# Altium footprint library Connector_PinHeader_2.00mm.PcbLib: 278 footprints (part 4 of 18)
Each footprint in its own frame and in the unit in brackets; x right, y up, seen from the top. Pads: shape width x height; smd on the part's side, far side on the other; paste and mask are expansions set on the pad; w line width, h text height; cw(c..) or ccw(c..) is an arc to the next point about the centre after c.
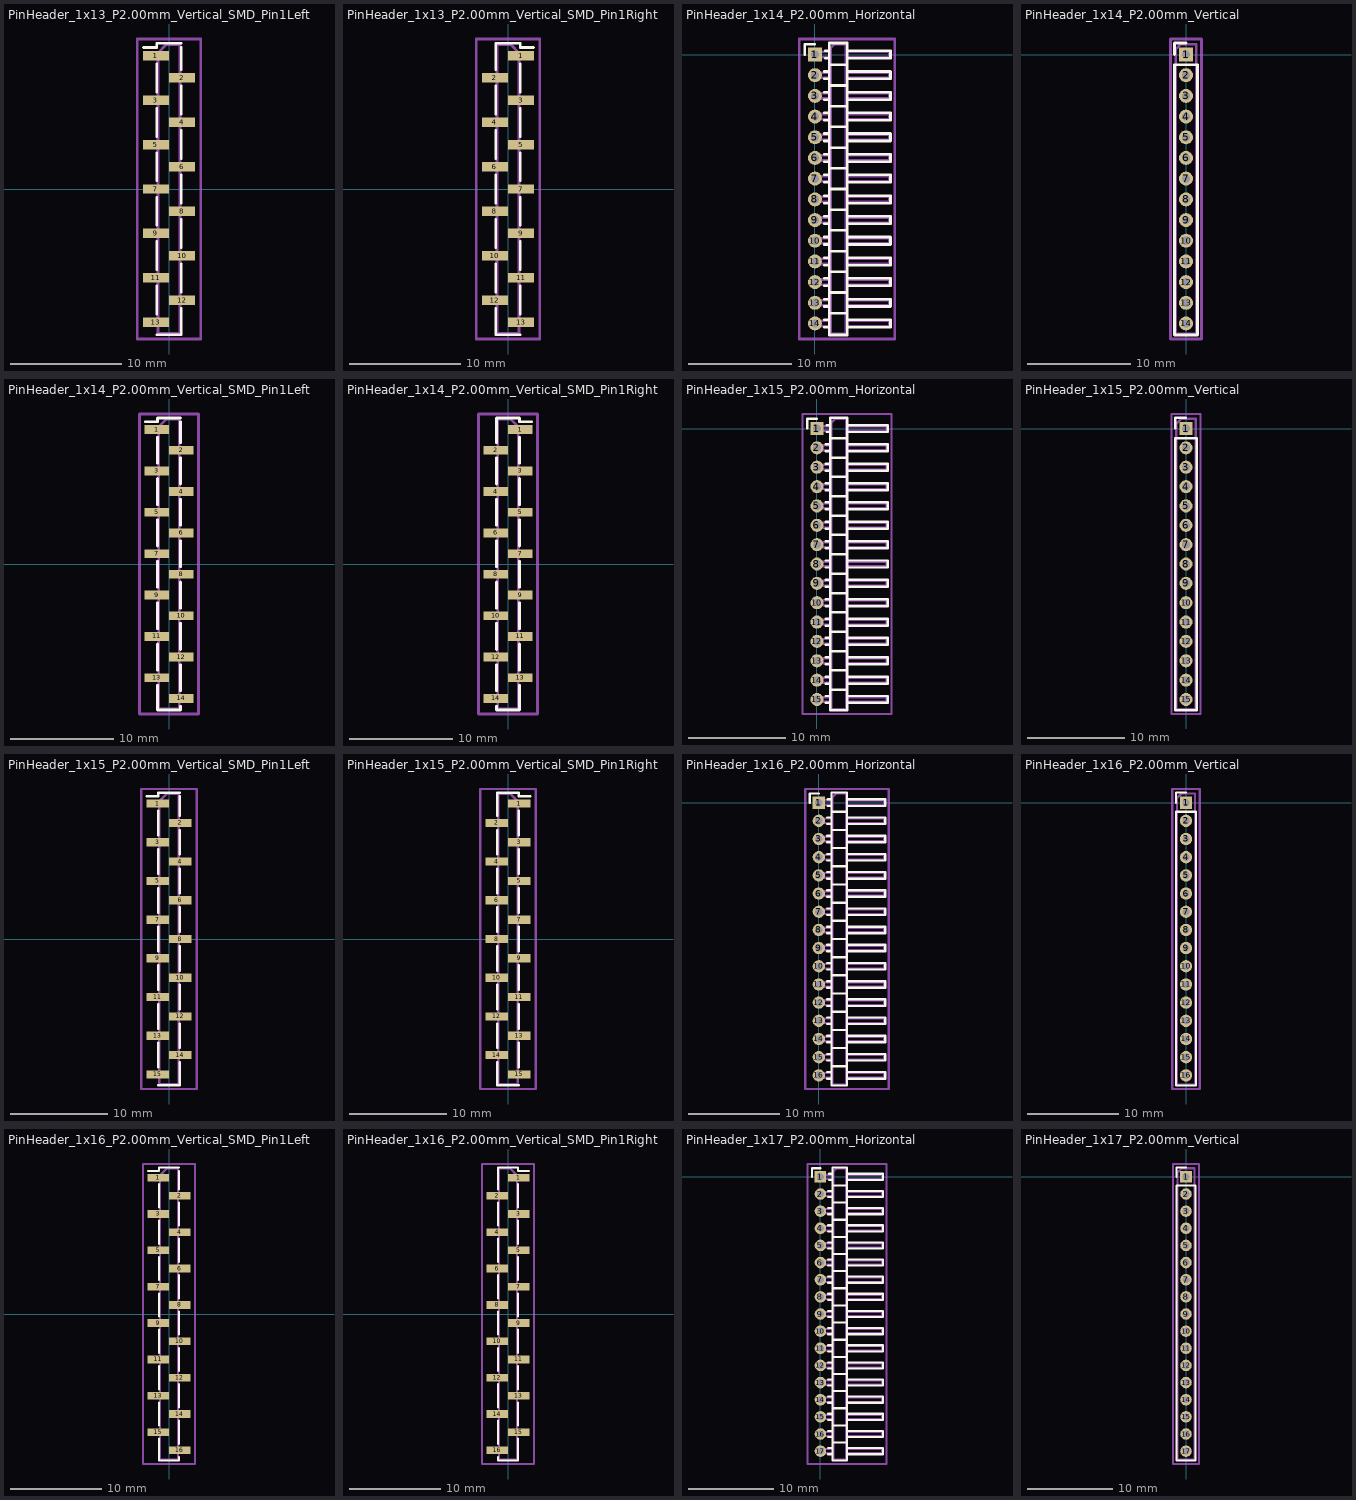
[diagram p3: the footprints below, top view; thin cyan lines are the x and y axes]

## PinHeader_1x13_P2.00mm_Vertical_SMD_Pin1Left [mm]
pads (13):
  rect 2.35x0.85 smd: 1(-1.175,12) 2(1.175,10) 3(-1.175,8) 4(1.175,6) 5(-1.175,4) 6(1.175,2) 7(-1.175,0) 8(1.175,-2) 9(-1.175,-4) 10(1.175,-6) 11(-1.175,-8) 12(1.175,-10) 13(-1.175,-12)
F.SilkS:
  lines w0.254: -2.29,12.735 -1.11,12.735 -1.11,13.11 1.11,13.11 ; -1.11,-13.11 1.11,-13.11 ; -1.11,-11.265 -1.11,-8.735 ; -1.11,-7.265 -1.11,-4.735 ; -1.11,-3.265 -1.11,-0.735 ; -1.11,0.735 -1.11,3.265 ; -1.11,4.735 -1.11,7.265 ; -1.11,8.735 -1.11,11.265 ; 1.11,-12.735 1.11,-13.11 ; 1.11,-10.735 1.11,-13.11 ; 1.11,-9.265 1.11,-6.735 ; 1.11,-5.265 1.11,-2.735 ; 1.11,-1.265 1.11,1.265 ; 1.11,2.735 1.11,5.265 ; 1.11,6.735 1.11,9.265 ; 1.11,10.735 1.11,12.735
Top Assembly:
  lines w0.254: -1,-12.25 -2.1,-12.25 -2.1,-11.75 -1,-11.75 ; -1,-8.25 -2.1,-8.25 -2.1,-7.75 -1,-7.75 ; -1,-4.25 -2.1,-4.25 -2.1,-3.75 -1,-3.75 ; -1,-0.25 -2.1,-0.25 -2.1,0.25 -1,0.25 ; -1,3.75 -2.1,3.75 -2.1,4.25 -1,4.25 ; -1,7.75 -2.1,7.75 -2.1,8.25 -1,8.25 ; -1,11.75 -2.1,11.75 -2.1,12.25 -1,12.25 ; 1,-10.25 2.1,-10.25 2.1,-9.75 1,-9.75 ; 1,-6.25 2.1,-6.25 2.1,-5.75 1,-5.75 ; 1,-2.25 2.1,-2.25 2.1,-1.75 1,-1.75 ; 1,1.75 2.1,1.75 2.1,2.25 1,2.25 ; 1,5.75 2.1,5.75 2.1,6.25 1,6.25 ; 1,9.75 2.1,9.75 2.1,10.25 1,10.25 ; -1,12.25 -1,-13 1,-13 1,13 -0.25,13 -1,12.25
  text "'.Designator'" at 0.84,-4.047 h1
Top Courtyard:
  lines w0.254: -2.85,-13.5 2.85,-13.5 2.85,13.5 -2.85,13.5 -2.85,-13.5
Top Designator:
  text ".Designator" at -7.618,-0.508 h1.52

## PinHeader_1x13_P2.00mm_Vertical_SMD_Pin1Right [mm]
pads (13):
  rect 2.35x0.85 smd: 1(1.175,12) 2(-1.175,10) 3(1.175,8) 4(-1.175,6) 5(1.175,4) 6(-1.175,2) 7(1.175,0) 8(-1.175,-2) 9(1.175,-4) 10(-1.175,-6) 11(1.175,-8) 12(-1.175,-10) 13(1.175,-12)
F.SilkS:
  lines w0.254: -1.11,-12.735 -1.11,-13.11 ; -1.11,-10.735 -1.11,-13.11 ; -1.11,-9.265 -1.11,-6.735 ; -1.11,-5.265 -1.11,-2.735 ; -1.11,-1.265 -1.11,1.265 ; -1.11,2.735 -1.11,5.265 ; -1.11,6.735 -1.11,9.265 ; -1.11,12.735 -1.11,10.735 -1.11,13.11 1.11,13.11 1.11,12.735 2.29,12.735 ; 1.11,-13.11 -1.11,-13.11 ; 1.11,-11.265 1.11,-8.735 ; 1.11,-7.265 1.11,-4.735 ; 1.11,-3.265 1.11,-0.735 ; 1.11,0.735 1.11,3.265 ; 1.11,4.735 1.11,7.265 ; 1.11,8.735 1.11,11.265
Top Assembly:
  lines w0.254: -1,-10.25 -2.1,-10.25 -2.1,-9.75 -1,-9.75 ; -1,-6.25 -2.1,-6.25 -2.1,-5.75 -1,-5.75 ; -1,-2.25 -2.1,-2.25 -2.1,-1.75 -1,-1.75 ; -1,1.75 -2.1,1.75 -2.1,2.25 -1,2.25 ; -1,5.75 -2.1,5.75 -2.1,6.25 -1,6.25 ; -1,9.75 -2.1,9.75 -2.1,10.25 -1,10.25 ; 1,-12.25 2.1,-12.25 2.1,-11.75 1,-11.75 ; 1,-8.25 2.1,-8.25 2.1,-7.75 1,-7.75 ; 1,-4.25 2.1,-4.25 2.1,-3.75 1,-3.75 ; 1,-0.25 2.1,-0.25 2.1,0.25 1,0.25 ; 1,3.75 2.1,3.75 2.1,4.25 1,4.25 ; 1,7.75 2.1,7.75 2.1,8.25 1,8.25 ; 1,11.75 2.1,11.75 2.1,12.25 1,12.25 ; 1,12.25 1,-13 -1,-13 -1,13 0.25,13 1,12.25
  text "'.Designator'" at 0.84,-4.047 h1
Top Courtyard:
  lines w0.254: -2.85,-13.5 2.85,-13.5 2.85,13.5 -2.85,13.5 -2.85,-13.5
Top Designator:
  text ".Designator" at -7.618,-0.508 h1.52

## PinHeader_1x14_P2.00mm_Horizontal [mm]
pads (14):
  rect 1.35x1.35 hole 0.8: 1(0,0)
  round 1.35 hole 0.8: 2(0,-2) 3(0,-4) 4(0,-6) 5(0,-8) 6(0,-10) 7(0,-12) 8(0,-14) 9(0,-16) 10(0,-18) 11(0,-20) 12(0,-22) 13(0,-24) 14(0,-26)
F.SilkS:
  lines w0.254: -1,0 -1,1 0,1 ; 0.917,-26.36 1.39,-26.36 ; 0.917,-25.64 1.39,-25.64 ; 0.917,-24.36 1.39,-24.36 ; 0.917,-23.64 1.39,-23.64 ; 0.917,-22.36 1.39,-22.36 ; 0.917,-21.64 1.39,-21.64 ; 0.917,-20.36 1.39,-20.36 ; 0.917,-19.64 1.39,-19.64 ; 0.917,-18.36 1.39,-18.36 ; 0.917,-17.64 1.39,-17.64 ; 0.917,-16.36 1.39,-16.36 ; 0.917,-15.64 1.39,-15.64 ; 0.917,-14.36 1.39,-14.36 ; 0.917,-13.64 1.39,-13.64 ; 0.917,-12.36 1.39,-12.36 ; 0.917,-11.64 1.39,-11.64 ; 0.917,-10.36 1.39,-10.36 ; 0.917,-9.64 1.39,-9.64 ; 0.917,-8.36 1.39,-8.36 ; 0.917,-7.64 1.39,-7.64 ; 0.917,-6.36 1.39,-6.36 ; 0.917,-5.64 1.39,-5.64 ; 0.917,-4.36 1.39,-4.36 ; 0.917,-3.64 1.39,-3.64 ; 0.917,-2.36 1.39,-2.36 ; 0.917,-1.64 1.39,-1.64 ; 0.985,-0.36 1.39,-0.36 ; 0.985,0.36 1.39,0.36 ; 1.39,-25 3.11,-25 ; 1.39,-23 3.11,-23 ; 1.39,-21 3.11,-21 ; 1.39,-19 3.11,-19 ; 1.39,-17 3.11,-17 ; 1.39,-15 3.11,-15 ; 1.39,-13 3.11,-13 ; 1.39,-11 3.11,-11 ; 1.39,-9 3.11,-9 ; 1.39,-7 3.11,-7 ; 1.39,-5 3.11,-5 ; 1.39,-3 3.11,-3 ; 1.39,-1 3.11,-1 ; 3.11,-26.36 7.31,-26.36 7.31,-25.64 3.11,-25.64 ; 3.11,-24.36 7.31,-24.36 7.31,-23.64 3.11,-23.64 ; 3.11,-22.36 7.31,-22.36 7.31,-21.64 3.11,-21.64 ; 3.11,-20.36 7.31,-20.36 7.31,-19.64 3.11,-19.64 ; 3.11,-18.36 7.31,-18.36 7.31,-17.64 3.11,-17.64 ; 3.11,-16.36 7.31,-16.36 7.31,-15.64 3.11,-15.64 ; 3.11,-14.36 7.31,-14.36 7.31,-13.64 3.11,-13.64 ; 3.11,-12.36 7.31,-12.36 7.31,-11.64 3.11,-11.64 ; 3.11,-10.36 7.31,-10.36 7.31,-9.64 3.11,-9.64 ; 3.11,-8.36 7.31,-8.36 7.31,-7.64 3.11,-7.64 ; 3.11,-6.36 7.31,-6.36 7.31,-5.64 3.11,-5.64 ; 3.11,-4.36 7.31,-4.36 7.31,-3.64 3.11,-3.64 ; 3.11,-2.36 7.31,-2.36 7.31,-1.64 3.11,-1.64 ; 1.39,-27.11 3.11,-27.11 3.11,1.11 1.39,1.11 1.39,-27.11 ; 3.11,-0.36 7.31,-0.36 7.31,0.36 3.11,0.36 3.11,-0.36
Top Assembly:
  lines w0.254: 1.5,-26.25 -0.25,-26.25 -0.25,-25.75 1.5,-25.75 ; 1.5,-24.25 -0.25,-24.25 -0.25,-23.75 1.5,-23.75 ; 1.5,-22.25 -0.25,-22.25 -0.25,-21.75 1.5,-21.75 ; 1.5,-20.25 -0.25,-20.25 -0.25,-19.75 1.5,-19.75 ; 1.5,-18.25 -0.25,-18.25 -0.25,-17.75 1.5,-17.75 ; 1.5,-16.25 -0.25,-16.25 -0.25,-15.75 1.5,-15.75 ; 1.5,-14.25 -0.25,-14.25 -0.25,-13.75 1.5,-13.75 ; 1.5,-12.25 -0.25,-12.25 -0.25,-11.75 1.5,-11.75 ; 1.5,-10.25 -0.25,-10.25 -0.25,-9.75 1.5,-9.75 ; 1.5,-8.25 -0.25,-8.25 -0.25,-7.75 1.5,-7.75 ; 1.5,-6.25 -0.25,-6.25 -0.25,-5.75 1.5,-5.75 ; 1.5,-4.25 -0.25,-4.25 -0.25,-3.75 1.5,-3.75 ; 1.5,-2.25 -0.25,-2.25 -0.25,-1.75 1.5,-1.75 ; 1.5,-0.25 -0.25,-0.25 -0.25,0.25 1.5,0.25 ; 3,-26.25 7.2,-26.25 7.2,-25.75 3,-25.75 ; 3,-24.25 7.2,-24.25 7.2,-23.75 3,-23.75 ; 3,-22.25 7.2,-22.25 7.2,-21.75 3,-21.75 ; 3,-20.25 7.2,-20.25 7.2,-19.75 3,-19.75 ; 3,-18.25 7.2,-18.25 7.2,-17.75 3,-17.75 ; 3,-16.25 7.2,-16.25 7.2,-15.75 3,-15.75 ; 3,-14.25 7.2,-14.25 7.2,-13.75 3,-13.75 ; 3,-12.25 7.2,-12.25 7.2,-11.75 3,-11.75 ; 3,-10.25 7.2,-10.25 7.2,-9.75 3,-9.75 ; 3,-8.25 7.2,-8.25 7.2,-7.75 3,-7.75 ; 3,-6.25 7.2,-6.25 7.2,-5.75 3,-5.75 ; 3,-4.25 7.2,-4.25 7.2,-3.75 3,-3.75 ; 3,-2.25 7.2,-2.25 7.2,-1.75 3,-1.75 ; 3,-0.25 7.2,-0.25 7.2,0.25 3,0.25 ; 1.5,-27 3,-27 3,1 1.875,1 1.5,0.625 1.5,-27
  text "'.Designator'" at 3.006,-16.642 h0.9
Top Courtyard:
  lines w0.254: -1.5,-27.5 7.7,-27.5 7.7,1.5 -1.5,1.5 -1.5,-27.5
Top Designator:
  text ".Designator" at -4.518,-13.508 h1.52

## PinHeader_1x14_P2.00mm_Vertical [mm]
pads (14):
  rect 1.35x1.35 hole 0.8: 1(0,0)
  round 1.35 hole 0.8: 2(0,-2) 3(0,-4) 4(0,-6) 5(0,-8) 6(0,-10) 7(0,-12) 8(0,-14) 9(0,-16) 10(0,-18) 11(0,-20) 12(0,-22) 13(0,-24) 14(0,-26)
F.SilkS:
  lines w0.254: -1.11,0 -1.11,1.11 0,1.11 ; -1.11,-27.11 1.11,-27.11 1.11,-1 -1.11,-1 -1.11,-27.11
Top Assembly:
  lines w0.254: -1,-27 1,-27 1,1 -0.5,1 -1,0.5 -1,-27
  text "'.Designator'" at 0.84,-17.047 h1
Top Courtyard:
  lines w0.254: -1.5,-27.5 1.5,-27.5 1.5,1.5 -1.5,1.5 -1.5,-27.5
Top Designator:
  text ".Designator" at -7.618,-13.508 h1.52

## PinHeader_1x14_P2.00mm_Vertical_SMD_Pin1Left [mm]
pads (14):
  rect 2.35x0.85 smd: 1(-1.175,13) 2(1.175,11) 3(-1.175,9) 4(1.175,7) 5(-1.175,5) 6(1.175,3) 7(-1.175,1) 8(1.175,-1) 9(-1.175,-3) 10(1.175,-5) 11(-1.175,-7) 12(1.175,-9) 13(-1.175,-11) 14(1.175,-13)
F.SilkS:
  lines w0.254: -2.29,13.735 -1.11,13.735 -1.11,14.11 1.11,14.11 ; -1.11,-11.735 -1.11,-14.11 1.11,-14.11 1.11,-13.735 ; -1.11,-10.265 -1.11,-7.735 ; -1.11,-6.265 -1.11,-3.735 ; -1.11,-2.265 -1.11,0.265 ; -1.11,1.735 -1.11,4.265 ; -1.11,5.735 -1.11,8.265 ; -1.11,9.735 -1.11,12.265 ; 1.11,-12.265 1.11,-9.735 ; 1.11,-8.265 1.11,-5.735 ; 1.11,-4.265 1.11,-1.735 ; 1.11,-0.265 1.11,2.265 ; 1.11,3.735 1.11,6.265 ; 1.11,7.735 1.11,10.265 ; 1.11,11.735 1.11,13.735
Top Assembly:
  lines w0.254: -1,-11.25 -2.1,-11.25 -2.1,-10.75 -1,-10.75 ; -1,-7.25 -2.1,-7.25 -2.1,-6.75 -1,-6.75 ; -1,-3.25 -2.1,-3.25 -2.1,-2.75 -1,-2.75 ; -1,0.75 -2.1,0.75 -2.1,1.25 -1,1.25 ; -1,4.75 -2.1,4.75 -2.1,5.25 -1,5.25 ; -1,8.75 -2.1,8.75 -2.1,9.25 -1,9.25 ; -1,12.75 -2.1,12.75 -2.1,13.25 -1,13.25 ; 1,-13.25 2.1,-13.25 2.1,-12.75 1,-12.75 ; 1,-9.25 2.1,-9.25 2.1,-8.75 1,-8.75 ; 1,-5.25 2.1,-5.25 2.1,-4.75 1,-4.75 ; 1,-1.25 2.1,-1.25 2.1,-0.75 1,-0.75 ; 1,2.75 2.1,2.75 2.1,3.25 1,3.25 ; 1,6.75 2.1,6.75 2.1,7.25 1,7.25 ; 1,10.75 2.1,10.75 2.1,11.25 1,11.25 ; -1,13.25 -1,-14 1,-14 1,14 -0.25,14 -1,13.25
  text "'.Designator'" at 0.84,-4.047 h1
Top Courtyard:
  lines w0.254: -2.85,-14.5 2.85,-14.5 2.85,14.5 -2.85,14.5 -2.85,-14.5
Top Designator:
  text ".Designator" at -7.618,-0.508 h1.52

## PinHeader_1x14_P2.00mm_Vertical_SMD_Pin1Right [mm]
pads (14):
  rect 2.35x0.85 smd: 1(1.175,13) 2(-1.175,11) 3(1.175,9) 4(-1.175,7) 5(1.175,5) 6(-1.175,3) 7(1.175,1) 8(-1.175,-1) 9(1.175,-3) 10(-1.175,-5) 11(1.175,-7) 12(-1.175,-9) 13(1.175,-11) 14(-1.175,-13)
F.SilkS:
  lines w0.254: -1.11,-13.735 -1.11,-14.11 1.11,-14.11 1.11,-11.735 ; -1.11,-12.265 -1.11,-9.735 ; -1.11,-8.265 -1.11,-5.735 ; -1.11,-4.265 -1.11,-1.735 ; -1.11,-0.265 -1.11,2.265 ; -1.11,3.735 -1.11,6.265 ; -1.11,7.735 -1.11,10.265 ; -1.11,13.735 -1.11,11.735 -1.11,14.11 1.11,14.11 1.11,13.735 2.29,13.735 ; 1.11,-10.265 1.11,-7.735 ; 1.11,-6.265 1.11,-3.735 ; 1.11,-2.265 1.11,0.265 ; 1.11,1.735 1.11,4.265 ; 1.11,5.735 1.11,8.265 ; 1.11,9.735 1.11,12.265
Top Assembly:
  lines w0.254: -1,-13.25 -2.1,-13.25 -2.1,-12.75 -1,-12.75 ; -1,-9.25 -2.1,-9.25 -2.1,-8.75 -1,-8.75 ; -1,-5.25 -2.1,-5.25 -2.1,-4.75 -1,-4.75 ; -1,-1.25 -2.1,-1.25 -2.1,-0.75 -1,-0.75 ; -1,2.75 -2.1,2.75 -2.1,3.25 -1,3.25 ; -1,6.75 -2.1,6.75 -2.1,7.25 -1,7.25 ; -1,10.75 -2.1,10.75 -2.1,11.25 -1,11.25 ; 1,-11.25 2.1,-11.25 2.1,-10.75 1,-10.75 ; 1,-7.25 2.1,-7.25 2.1,-6.75 1,-6.75 ; 1,-3.25 2.1,-3.25 2.1,-2.75 1,-2.75 ; 1,0.75 2.1,0.75 2.1,1.25 1,1.25 ; 1,4.75 2.1,4.75 2.1,5.25 1,5.25 ; 1,8.75 2.1,8.75 2.1,9.25 1,9.25 ; 1,12.75 2.1,12.75 2.1,13.25 1,13.25 ; 1,13.25 1,-14 -1,-14 -1,14 0.25,14 1,13.25
  text "'.Designator'" at 0.84,-4.047 h1
Top Courtyard:
  lines w0.254: -2.85,-14.5 2.85,-14.5 2.85,14.5 -2.85,14.5 -2.85,-14.5
Top Designator:
  text ".Designator" at -7.618,-0.508 h1.52

## PinHeader_1x15_P2.00mm_Horizontal [mm]
pads (15):
  rect 1.35x1.35 hole 0.8: 1(0,0)
  round 1.35 hole 0.8: 2(0,-2) 3(0,-4) 4(0,-6) 5(0,-8) 6(0,-10) 7(0,-12) 8(0,-14) 9(0,-16) 10(0,-18) 11(0,-20) 12(0,-22) 13(0,-24) 14(0,-26) 15(0,-28)
F.SilkS:
  lines w0.254: -1,0 -1,1 0,1 ; 0.917,-28.36 1.39,-28.36 ; 0.917,-27.64 1.39,-27.64 ; 0.917,-26.36 1.39,-26.36 ; 0.917,-25.64 1.39,-25.64 ; 0.917,-24.36 1.39,-24.36 ; 0.917,-23.64 1.39,-23.64 ; 0.917,-22.36 1.39,-22.36 ; 0.917,-21.64 1.39,-21.64 ; 0.917,-20.36 1.39,-20.36 ; 0.917,-19.64 1.39,-19.64 ; 0.917,-18.36 1.39,-18.36 ; 0.917,-17.64 1.39,-17.64 ; 0.917,-16.36 1.39,-16.36 ; 0.917,-15.64 1.39,-15.64 ; 0.917,-14.36 1.39,-14.36 ; 0.917,-13.64 1.39,-13.64 ; 0.917,-12.36 1.39,-12.36 ; 0.917,-11.64 1.39,-11.64 ; 0.917,-10.36 1.39,-10.36 ; 0.917,-9.64 1.39,-9.64 ; 0.917,-8.36 1.39,-8.36 ; 0.917,-7.64 1.39,-7.64 ; 0.917,-6.36 1.39,-6.36 ; 0.917,-5.64 1.39,-5.64 ; 0.917,-4.36 1.39,-4.36 ; 0.917,-3.64 1.39,-3.64 ; 0.917,-2.36 1.39,-2.36 ; 0.917,-1.64 1.39,-1.64 ; 0.985,-0.36 1.39,-0.36 ; 0.985,0.36 1.39,0.36 ; 1.39,-27 3.11,-27 ; 1.39,-25 3.11,-25 ; 1.39,-23 3.11,-23 ; 1.39,-21 3.11,-21 ; 1.39,-19 3.11,-19 ; 1.39,-17 3.11,-17 ; 1.39,-15 3.11,-15 ; 1.39,-13 3.11,-13 ; 1.39,-11 3.11,-11 ; 1.39,-9 3.11,-9 ; 1.39,-7 3.11,-7 ; 1.39,-5 3.11,-5 ; 1.39,-3 3.11,-3 ; 1.39,-1 3.11,-1 ; 3.11,-28.36 7.31,-28.36 7.31,-27.64 3.11,-27.64 ; 3.11,-26.36 7.31,-26.36 7.31,-25.64 3.11,-25.64 ; 3.11,-24.36 7.31,-24.36 7.31,-23.64 3.11,-23.64 ; 3.11,-22.36 7.31,-22.36 7.31,-21.64 3.11,-21.64 ; 3.11,-20.36 7.31,-20.36 7.31,-19.64 3.11,-19.64 ; 3.11,-18.36 7.31,-18.36 7.31,-17.64 3.11,-17.64 ; 3.11,-16.36 7.31,-16.36 7.31,-15.64 3.11,-15.64 ; 3.11,-14.36 7.31,-14.36 7.31,-13.64 3.11,-13.64 ; 3.11,-12.36 7.31,-12.36 7.31,-11.64 3.11,-11.64 ; 3.11,-10.36 7.31,-10.36 7.31,-9.64 3.11,-9.64 ; 3.11,-8.36 7.31,-8.36 7.31,-7.64 3.11,-7.64 ; 3.11,-6.36 7.31,-6.36 7.31,-5.64 3.11,-5.64 ; 3.11,-4.36 7.31,-4.36 7.31,-3.64 3.11,-3.64 ; 3.11,-2.36 7.31,-2.36 7.31,-1.64 3.11,-1.64 ; 1.39,-29.11 3.11,-29.11 3.11,1.11 1.39,1.11 1.39,-29.11 ; 3.11,-0.36 7.31,-0.36 7.31,0.36 3.11,0.36 3.11,-0.36
Top Assembly:
  lines w0.254: 1.5,-28.25 -0.25,-28.25 -0.25,-27.75 1.5,-27.75 ; 1.5,-26.25 -0.25,-26.25 -0.25,-25.75 1.5,-25.75 ; 1.5,-24.25 -0.25,-24.25 -0.25,-23.75 1.5,-23.75 ; 1.5,-22.25 -0.25,-22.25 -0.25,-21.75 1.5,-21.75 ; 1.5,-20.25 -0.25,-20.25 -0.25,-19.75 1.5,-19.75 ; 1.5,-18.25 -0.25,-18.25 -0.25,-17.75 1.5,-17.75 ; 1.5,-16.25 -0.25,-16.25 -0.25,-15.75 1.5,-15.75 ; 1.5,-14.25 -0.25,-14.25 -0.25,-13.75 1.5,-13.75 ; 1.5,-12.25 -0.25,-12.25 -0.25,-11.75 1.5,-11.75 ; 1.5,-10.25 -0.25,-10.25 -0.25,-9.75 1.5,-9.75 ; 1.5,-8.25 -0.25,-8.25 -0.25,-7.75 1.5,-7.75 ; 1.5,-6.25 -0.25,-6.25 -0.25,-5.75 1.5,-5.75 ; 1.5,-4.25 -0.25,-4.25 -0.25,-3.75 1.5,-3.75 ; 1.5,-2.25 -0.25,-2.25 -0.25,-1.75 1.5,-1.75 ; 1.5,-0.25 -0.25,-0.25 -0.25,0.25 1.5,0.25 ; 3,-28.25 7.2,-28.25 7.2,-27.75 3,-27.75 ; 3,-26.25 7.2,-26.25 7.2,-25.75 3,-25.75 ; 3,-24.25 7.2,-24.25 7.2,-23.75 3,-23.75 ; 3,-22.25 7.2,-22.25 7.2,-21.75 3,-21.75 ; 3,-20.25 7.2,-20.25 7.2,-19.75 3,-19.75 ; 3,-18.25 7.2,-18.25 7.2,-17.75 3,-17.75 ; 3,-16.25 7.2,-16.25 7.2,-15.75 3,-15.75 ; 3,-14.25 7.2,-14.25 7.2,-13.75 3,-13.75 ; 3,-12.25 7.2,-12.25 7.2,-11.75 3,-11.75 ; 3,-10.25 7.2,-10.25 7.2,-9.75 3,-9.75 ; 3,-8.25 7.2,-8.25 7.2,-7.75 3,-7.75 ; 3,-6.25 7.2,-6.25 7.2,-5.75 3,-5.75 ; 3,-4.25 7.2,-4.25 7.2,-3.75 3,-3.75 ; 3,-2.25 7.2,-2.25 7.2,-1.75 3,-1.75 ; 3,-0.25 7.2,-0.25 7.2,0.25 3,0.25 ; 1.5,-29 3,-29 3,1 1.875,1 1.5,0.625 1.5,-29
  text "'.Designator'" at 3.006,-17.642 h0.9
Top Courtyard:
  lines w0.254: -1.5,-29.5 7.7,-29.5 7.7,1.5 -1.5,1.5 -1.5,-29.5
Top Designator:
  text ".Designator" at -4.518,-14.508 h1.52

## PinHeader_1x15_P2.00mm_Vertical [mm]
pads (15):
  rect 1.35x1.35 hole 0.8: 1(0,0)
  round 1.35 hole 0.8: 2(0,-2) 3(0,-4) 4(0,-6) 5(0,-8) 6(0,-10) 7(0,-12) 8(0,-14) 9(0,-16) 10(0,-18) 11(0,-20) 12(0,-22) 13(0,-24) 14(0,-26) 15(0,-28)
F.SilkS:
  lines w0.254: -1.11,0 -1.11,1.11 0,1.11 ; -1.11,-29.11 1.11,-29.11 1.11,-1 -1.11,-1 -1.11,-29.11
Top Assembly:
  lines w0.254: -1,-29 1,-29 1,1 -0.5,1 -1,0.5 -1,-29
  text "'.Designator'" at 0.84,-18.047 h1
Top Courtyard:
  lines w0.254: -1.5,-29.5 1.5,-29.5 1.5,1.5 -1.5,1.5 -1.5,-29.5
Top Designator:
  text ".Designator" at -7.618,-14.508 h1.52

## PinHeader_1x15_P2.00mm_Vertical_SMD_Pin1Left [mm]
pads (15):
  rect 2.35x0.85 smd: 1(-1.175,14) 2(1.175,12) 3(-1.175,10) 4(1.175,8) 5(-1.175,6) 6(1.175,4) 7(-1.175,2) 8(1.175,0) 9(-1.175,-2) 10(1.175,-4) 11(-1.175,-6) 12(1.175,-8) 13(-1.175,-10) 14(1.175,-12) 15(-1.175,-14)
F.SilkS:
  lines w0.254: -2.29,14.735 -1.11,14.735 -1.11,15.11 1.11,15.11 ; -1.11,-15.11 1.11,-15.11 ; -1.11,-13.265 -1.11,-10.735 ; -1.11,-9.265 -1.11,-6.735 ; -1.11,-5.265 -1.11,-2.735 ; -1.11,-1.265 -1.11,1.265 ; -1.11,2.735 -1.11,5.265 ; -1.11,6.735 -1.11,9.265 ; -1.11,10.735 -1.11,13.265 ; 1.11,-14.735 1.11,-15.11 ; 1.11,-12.735 1.11,-15.11 ; 1.11,-11.265 1.11,-8.735 ; 1.11,-7.265 1.11,-4.735 ; 1.11,-3.265 1.11,-0.735 ; 1.11,0.735 1.11,3.265 ; 1.11,4.735 1.11,7.265 ; 1.11,8.735 1.11,11.265 ; 1.11,12.735 1.11,14.735
Top Assembly:
  lines w0.254: -1,-14.25 -2.1,-14.25 -2.1,-13.75 -1,-13.75 ; -1,-10.25 -2.1,-10.25 -2.1,-9.75 -1,-9.75 ; -1,-6.25 -2.1,-6.25 -2.1,-5.75 -1,-5.75 ; -1,-2.25 -2.1,-2.25 -2.1,-1.75 -1,-1.75 ; -1,1.75 -2.1,1.75 -2.1,2.25 -1,2.25 ; -1,5.75 -2.1,5.75 -2.1,6.25 -1,6.25 ; -1,9.75 -2.1,9.75 -2.1,10.25 -1,10.25 ; -1,13.75 -2.1,13.75 -2.1,14.25 -1,14.25 ; 1,-12.25 2.1,-12.25 2.1,-11.75 1,-11.75 ; 1,-8.25 2.1,-8.25 2.1,-7.75 1,-7.75 ; 1,-4.25 2.1,-4.25 2.1,-3.75 1,-3.75 ; 1,-0.25 2.1,-0.25 2.1,0.25 1,0.25 ; 1,3.75 2.1,3.75 2.1,4.25 1,4.25 ; 1,7.75 2.1,7.75 2.1,8.25 1,8.25 ; 1,11.75 2.1,11.75 2.1,12.25 1,12.25 ; -1,14.25 -1,-15 1,-15 1,15 -0.25,15 -1,14.25
  text "'.Designator'" at 0.84,-4.047 h1
Top Courtyard:
  lines w0.254: -2.85,-15.5 2.85,-15.5 2.85,15.5 -2.85,15.5 -2.85,-15.5
Top Designator:
  text ".Designator" at -7.618,-0.508 h1.52

## PinHeader_1x15_P2.00mm_Vertical_SMD_Pin1Right [mm]
pads (15):
  rect 2.35x0.85 smd: 1(1.175,14) 2(-1.175,12) 3(1.175,10) 4(-1.175,8) 5(1.175,6) 6(-1.175,4) 7(1.175,2) 8(-1.175,0) 9(1.175,-2) 10(-1.175,-4) 11(1.175,-6) 12(-1.175,-8) 13(1.175,-10) 14(-1.175,-12) 15(1.175,-14)
F.SilkS:
  lines w0.254: -1.11,-14.735 -1.11,-15.11 ; -1.11,-12.735 -1.11,-15.11 ; -1.11,-11.265 -1.11,-8.735 ; -1.11,-7.265 -1.11,-4.735 ; -1.11,-3.265 -1.11,-0.735 ; -1.11,0.735 -1.11,3.265 ; -1.11,4.735 -1.11,7.265 ; -1.11,8.735 -1.11,11.265 ; -1.11,14.735 -1.11,12.735 -1.11,15.11 1.11,15.11 1.11,14.735 2.29,14.735 ; 1.11,-15.11 -1.11,-15.11 ; 1.11,-13.265 1.11,-10.735 ; 1.11,-9.265 1.11,-6.735 ; 1.11,-5.265 1.11,-2.735 ; 1.11,-1.265 1.11,1.265 ; 1.11,2.735 1.11,5.265 ; 1.11,6.735 1.11,9.265 ; 1.11,10.735 1.11,13.265
Top Assembly:
  lines w0.254: -1,-12.25 -2.1,-12.25 -2.1,-11.75 -1,-11.75 ; -1,-8.25 -2.1,-8.25 -2.1,-7.75 -1,-7.75 ; -1,-4.25 -2.1,-4.25 -2.1,-3.75 -1,-3.75 ; -1,-0.25 -2.1,-0.25 -2.1,0.25 -1,0.25 ; -1,3.75 -2.1,3.75 -2.1,4.25 -1,4.25 ; -1,7.75 -2.1,7.75 -2.1,8.25 -1,8.25 ; -1,11.75 -2.1,11.75 -2.1,12.25 -1,12.25 ; 1,-14.25 2.1,-14.25 2.1,-13.75 1,-13.75 ; 1,-10.25 2.1,-10.25 2.1,-9.75 1,-9.75 ; 1,-6.25 2.1,-6.25 2.1,-5.75 1,-5.75 ; 1,-2.25 2.1,-2.25 2.1,-1.75 1,-1.75 ; 1,1.75 2.1,1.75 2.1,2.25 1,2.25 ; 1,5.75 2.1,5.75 2.1,6.25 1,6.25 ; 1,9.75 2.1,9.75 2.1,10.25 1,10.25 ; 1,13.75 2.1,13.75 2.1,14.25 1,14.25 ; 1,14.25 1,-15 -1,-15 -1,15 0.25,15 1,14.25
  text "'.Designator'" at 0.84,-4.047 h1
Top Courtyard:
  lines w0.254: -2.85,-15.5 2.85,-15.5 2.85,15.5 -2.85,15.5 -2.85,-15.5
Top Designator:
  text ".Designator" at -7.618,-0.508 h1.52

## PinHeader_1x16_P2.00mm_Horizontal [mm]
pads (16):
  rect 1.35x1.35 hole 0.8: 1(0,0)
  round 1.35 hole 0.8: 2(0,-2) 3(0,-4) 4(0,-6) 5(0,-8) 6(0,-10) 7(0,-12) 8(0,-14) 9(0,-16) 10(0,-18) 11(0,-20) 12(0,-22) 13(0,-24) 14(0,-26) 15(0,-28) 16(0,-30)
F.SilkS:
  lines w0.254: -1,0 -1,1 0,1 ; 0.917,-30.36 1.39,-30.36 ; 0.917,-29.64 1.39,-29.64 ; 0.917,-28.36 1.39,-28.36 ; 0.917,-27.64 1.39,-27.64 ; 0.917,-26.36 1.39,-26.36 ; 0.917,-25.64 1.39,-25.64 ; 0.917,-24.36 1.39,-24.36 ; 0.917,-23.64 1.39,-23.64 ; 0.917,-22.36 1.39,-22.36 ; 0.917,-21.64 1.39,-21.64 ; 0.917,-20.36 1.39,-20.36 ; 0.917,-19.64 1.39,-19.64 ; 0.917,-18.36 1.39,-18.36 ; 0.917,-17.64 1.39,-17.64 ; 0.917,-16.36 1.39,-16.36 ; 0.917,-15.64 1.39,-15.64 ; 0.917,-14.36 1.39,-14.36 ; 0.917,-13.64 1.39,-13.64 ; 0.917,-12.36 1.39,-12.36 ; 0.917,-11.64 1.39,-11.64 ; 0.917,-10.36 1.39,-10.36 ; 0.917,-9.64 1.39,-9.64 ; 0.917,-8.36 1.39,-8.36 ; 0.917,-7.64 1.39,-7.64 ; 0.917,-6.36 1.39,-6.36 ; 0.917,-5.64 1.39,-5.64 ; 0.917,-4.36 1.39,-4.36 ; 0.917,-3.64 1.39,-3.64 ; 0.917,-2.36 1.39,-2.36 ; 0.917,-1.64 1.39,-1.64 ; 0.985,-0.36 1.39,-0.36 ; 0.985,0.36 1.39,0.36 ; 1.39,-29 3.11,-29 ; 1.39,-27 3.11,-27 ; 1.39,-25 3.11,-25 ; 1.39,-23 3.11,-23 ; 1.39,-21 3.11,-21 ; 1.39,-19 3.11,-19 ; 1.39,-17 3.11,-17 ; 1.39,-15 3.11,-15 ; 1.39,-13 3.11,-13 ; 1.39,-11 3.11,-11 ; 1.39,-9 3.11,-9 ; 1.39,-7 3.11,-7 ; 1.39,-5 3.11,-5 ; 1.39,-3 3.11,-3 ; 1.39,-1 3.11,-1 ; 3.11,-30.36 7.31,-30.36 7.31,-29.64 3.11,-29.64 ; 3.11,-28.36 7.31,-28.36 7.31,-27.64 3.11,-27.64 ; 3.11,-26.36 7.31,-26.36 7.31,-25.64 3.11,-25.64 ; 3.11,-24.36 7.31,-24.36 7.31,-23.64 3.11,-23.64 ; 3.11,-22.36 7.31,-22.36 7.31,-21.64 3.11,-21.64 ; 3.11,-20.36 7.31,-20.36 7.31,-19.64 3.11,-19.64 ; 3.11,-18.36 7.31,-18.36 7.31,-17.64 3.11,-17.64 ; 3.11,-16.36 7.31,-16.36 7.31,-15.64 3.11,-15.64 ; 3.11,-14.36 7.31,-14.36 7.31,-13.64 3.11,-13.64 ; 3.11,-12.36 7.31,-12.36 7.31,-11.64 3.11,-11.64 ; 3.11,-10.36 7.31,-10.36 7.31,-9.64 3.11,-9.64 ; 3.11,-8.36 7.31,-8.36 7.31,-7.64 3.11,-7.64 ; 3.11,-6.36 7.31,-6.36 7.31,-5.64 3.11,-5.64 ; 3.11,-4.36 7.31,-4.36 7.31,-3.64 3.11,-3.64 ; 3.11,-2.36 7.31,-2.36 7.31,-1.64 3.11,-1.64 ; 1.39,-31.11 3.11,-31.11 3.11,1.11 1.39,1.11 1.39,-31.11 ; 3.11,-0.36 7.31,-0.36 7.31,0.36 3.11,0.36 3.11,-0.36
Top Assembly:
  lines w0.254: 1.5,-30.25 -0.25,-30.25 -0.25,-29.75 1.5,-29.75 ; 1.5,-28.25 -0.25,-28.25 -0.25,-27.75 1.5,-27.75 ; 1.5,-26.25 -0.25,-26.25 -0.25,-25.75 1.5,-25.75 ; 1.5,-24.25 -0.25,-24.25 -0.25,-23.75 1.5,-23.75 ; 1.5,-22.25 -0.25,-22.25 -0.25,-21.75 1.5,-21.75 ; 1.5,-20.25 -0.25,-20.25 -0.25,-19.75 1.5,-19.75 ; 1.5,-18.25 -0.25,-18.25 -0.25,-17.75 1.5,-17.75 ; 1.5,-16.25 -0.25,-16.25 -0.25,-15.75 1.5,-15.75 ; 1.5,-14.25 -0.25,-14.25 -0.25,-13.75 1.5,-13.75 ; 1.5,-12.25 -0.25,-12.25 -0.25,-11.75 1.5,-11.75 ; 1.5,-10.25 -0.25,-10.25 -0.25,-9.75 1.5,-9.75 ; 1.5,-8.25 -0.25,-8.25 -0.25,-7.75 1.5,-7.75 ; 1.5,-6.25 -0.25,-6.25 -0.25,-5.75 1.5,-5.75 ; 1.5,-4.25 -0.25,-4.25 -0.25,-3.75 1.5,-3.75 ; 1.5,-2.25 -0.25,-2.25 -0.25,-1.75 1.5,-1.75 ; 1.5,-0.25 -0.25,-0.25 -0.25,0.25 1.5,0.25 ; 3,-30.25 7.2,-30.25 7.2,-29.75 3,-29.75 ; 3,-28.25 7.2,-28.25 7.2,-27.75 3,-27.75 ; 3,-26.25 7.2,-26.25 7.2,-25.75 3,-25.75 ; 3,-24.25 7.2,-24.25 7.2,-23.75 3,-23.75 ; 3,-22.25 7.2,-22.25 7.2,-21.75 3,-21.75 ; 3,-20.25 7.2,-20.25 7.2,-19.75 3,-19.75 ; 3,-18.25 7.2,-18.25 7.2,-17.75 3,-17.75 ; 3,-16.25 7.2,-16.25 7.2,-15.75 3,-15.75 ; 3,-14.25 7.2,-14.25 7.2,-13.75 3,-13.75 ; 3,-12.25 7.2,-12.25 7.2,-11.75 3,-11.75 ; 3,-10.25 7.2,-10.25 7.2,-9.75 3,-9.75 ; 3,-8.25 7.2,-8.25 7.2,-7.75 3,-7.75 ; 3,-6.25 7.2,-6.25 7.2,-5.75 3,-5.75 ; 3,-4.25 7.2,-4.25 7.2,-3.75 3,-3.75 ; 3,-2.25 7.2,-2.25 7.2,-1.75 3,-1.75 ; 3,-0.25 7.2,-0.25 7.2,0.25 3,0.25 ; 1.5,-31 3,-31 3,1 1.875,1 1.5,0.625 1.5,-31
  text "'.Designator'" at 3.006,-18.642 h0.9
Top Courtyard:
  lines w0.254: -1.5,-31.5 7.7,-31.5 7.7,1.5 -1.5,1.5 -1.5,-31.5
Top Designator:
  text ".Designator" at -4.518,-15.508 h1.52

## PinHeader_1x16_P2.00mm_Vertical [mm]
pads (16):
  rect 1.35x1.35 hole 0.8: 1(0,0)
  round 1.35 hole 0.8: 2(0,-2) 3(0,-4) 4(0,-6) 5(0,-8) 6(0,-10) 7(0,-12) 8(0,-14) 9(0,-16) 10(0,-18) 11(0,-20) 12(0,-22) 13(0,-24) 14(0,-26) 15(0,-28) 16(0,-30)
F.SilkS:
  lines w0.254: -1.11,0 -1.11,1.11 0,1.11 ; -1.11,-31.11 1.11,-31.11 1.11,-1 -1.11,-1 -1.11,-31.11
Top Assembly:
  lines w0.254: -1,-31 1,-31 1,1 -0.5,1 -1,0.5 -1,-31
  text "'.Designator'" at 0.84,-19.047 h1
Top Courtyard:
  lines w0.254: -1.5,-31.5 1.5,-31.5 1.5,1.5 -1.5,1.5 -1.5,-31.5
Top Designator:
  text ".Designator" at -7.618,-15.508 h1.52

## PinHeader_1x16_P2.00mm_Vertical_SMD_Pin1Left [mm]
pads (16):
  rect 2.35x0.85 smd: 1(-1.175,15) 2(1.175,13) 3(-1.175,11) 4(1.175,9) 5(-1.175,7) 6(1.175,5) 7(-1.175,3) 8(1.175,1) 9(-1.175,-1) 10(1.175,-3) 11(-1.175,-5) 12(1.175,-7) 13(-1.175,-9) 14(1.175,-11) 15(-1.175,-13) 16(1.175,-15)
F.SilkS:
  lines w0.254: -2.29,15.735 -1.11,15.735 -1.11,16.11 1.11,16.11 ; -1.11,-13.735 -1.11,-16.11 1.11,-16.11 1.11,-15.735 ; -1.11,-12.265 -1.11,-9.735 ; -1.11,-8.265 -1.11,-5.735 ; -1.11,-4.265 -1.11,-1.735 ; -1.11,-0.265 -1.11,2.265 ; -1.11,3.735 -1.11,6.265 ; -1.11,7.735 -1.11,10.265 ; -1.11,11.735 -1.11,14.265 ; 1.11,-14.265 1.11,-11.735 ; 1.11,-10.265 1.11,-7.735 ; 1.11,-6.265 1.11,-3.735 ; 1.11,-2.265 1.11,0.265 ; 1.11,1.735 1.11,4.265 ; 1.11,5.735 1.11,8.265 ; 1.11,9.735 1.11,12.265 ; 1.11,13.735 1.11,15.735
Top Assembly:
  lines w0.254: -1,-13.25 -2.1,-13.25 -2.1,-12.75 -1,-12.75 ; -1,-9.25 -2.1,-9.25 -2.1,-8.75 -1,-8.75 ; -1,-5.25 -2.1,-5.25 -2.1,-4.75 -1,-4.75 ; -1,-1.25 -2.1,-1.25 -2.1,-0.75 -1,-0.75 ; -1,2.75 -2.1,2.75 -2.1,3.25 -1,3.25 ; -1,6.75 -2.1,6.75 -2.1,7.25 -1,7.25 ; -1,10.75 -2.1,10.75 -2.1,11.25 -1,11.25 ; -1,14.75 -2.1,14.75 -2.1,15.25 -1,15.25 ; 1,-15.25 2.1,-15.25 2.1,-14.75 1,-14.75 ; 1,-11.25 2.1,-11.25 2.1,-10.75 1,-10.75 ; 1,-7.25 2.1,-7.25 2.1,-6.75 1,-6.75 ; 1,-3.25 2.1,-3.25 2.1,-2.75 1,-2.75 ; 1,0.75 2.1,0.75 2.1,1.25 1,1.25 ; 1,4.75 2.1,4.75 2.1,5.25 1,5.25 ; 1,8.75 2.1,8.75 2.1,9.25 1,9.25 ; 1,12.75 2.1,12.75 2.1,13.25 1,13.25 ; -1,15.25 -1,-16 1,-16 1,16 -0.25,16 -1,15.25
  text "'.Designator'" at 0.84,-4.047 h1
Top Courtyard:
  lines w0.254: -2.85,-16.5 2.85,-16.5 2.85,16.5 -2.85,16.5 -2.85,-16.5
Top Designator:
  text ".Designator" at -7.618,-0.508 h1.52

## PinHeader_1x16_P2.00mm_Vertical_SMD_Pin1Right [mm]
pads (16):
  rect 2.35x0.85 smd: 1(1.175,15) 2(-1.175,13) 3(1.175,11) 4(-1.175,9) 5(1.175,7) 6(-1.175,5) 7(1.175,3) 8(-1.175,1) 9(1.175,-1) 10(-1.175,-3) 11(1.175,-5) 12(-1.175,-7) 13(1.175,-9) 14(-1.175,-11) 15(1.175,-13) 16(-1.175,-15)
F.SilkS:
  lines w0.254: -1.11,-15.735 -1.11,-16.11 1.11,-16.11 1.11,-13.735 ; -1.11,-14.265 -1.11,-11.735 ; -1.11,-10.265 -1.11,-7.735 ; -1.11,-6.265 -1.11,-3.735 ; -1.11,-2.265 -1.11,0.265 ; -1.11,1.735 -1.11,4.265 ; -1.11,5.735 -1.11,8.265 ; -1.11,9.735 -1.11,12.265 ; -1.11,15.735 -1.11,13.735 -1.11,16.11 1.11,16.11 1.11,15.735 2.29,15.735 ; 1.11,-12.265 1.11,-9.735 ; 1.11,-8.265 1.11,-5.735 ; 1.11,-4.265 1.11,-1.735 ; 1.11,-0.265 1.11,2.265 ; 1.11,3.735 1.11,6.265 ; 1.11,7.735 1.11,10.265 ; 1.11,11.735 1.11,14.265
Top Assembly:
  lines w0.254: -1,-15.25 -2.1,-15.25 -2.1,-14.75 -1,-14.75 ; -1,-11.25 -2.1,-11.25 -2.1,-10.75 -1,-10.75 ; -1,-7.25 -2.1,-7.25 -2.1,-6.75 -1,-6.75 ; -1,-3.25 -2.1,-3.25 -2.1,-2.75 -1,-2.75 ; -1,0.75 -2.1,0.75 -2.1,1.25 -1,1.25 ; -1,4.75 -2.1,4.75 -2.1,5.25 -1,5.25 ; -1,8.75 -2.1,8.75 -2.1,9.25 -1,9.25 ; -1,12.75 -2.1,12.75 -2.1,13.25 -1,13.25 ; 1,-13.25 2.1,-13.25 2.1,-12.75 1,-12.75 ; 1,-9.25 2.1,-9.25 2.1,-8.75 1,-8.75 ; 1,-5.25 2.1,-5.25 2.1,-4.75 1,-4.75 ; 1,-1.25 2.1,-1.25 2.1,-0.75 1,-0.75 ; 1,2.75 2.1,2.75 2.1,3.25 1,3.25 ; 1,6.75 2.1,6.75 2.1,7.25 1,7.25 ; 1,10.75 2.1,10.75 2.1,11.25 1,11.25 ; 1,14.75 2.1,14.75 2.1,15.25 1,15.25 ; 1,15.25 1,-16 -1,-16 -1,16 0.25,16 1,15.25
  text "'.Designator'" at 0.84,-4.047 h1
Top Courtyard:
  lines w0.254: -2.85,-16.5 2.85,-16.5 2.85,16.5 -2.85,16.5 -2.85,-16.5
Top Designator:
  text ".Designator" at -7.618,-0.508 h1.52

## PinHeader_1x17_P2.00mm_Horizontal [mm]
pads (17):
  rect 1.35x1.35 hole 0.8: 1(0,0)
  round 1.35 hole 0.8: 2(0,-2) 3(0,-4) 4(0,-6) 5(0,-8) 6(0,-10) 7(0,-12) 8(0,-14) 9(0,-16) 10(0,-18) 11(0,-20) 12(0,-22) 13(0,-24) 14(0,-26) 15(0,-28) 16(0,-30) 17(0,-32)
F.SilkS:
  lines w0.254: -1,0 -1,1 0,1 ; 0.917,-32.36 1.39,-32.36 ; 0.917,-31.64 1.39,-31.64 ; 0.917,-30.36 1.39,-30.36 ; 0.917,-29.64 1.39,-29.64 ; 0.917,-28.36 1.39,-28.36 ; 0.917,-27.64 1.39,-27.64 ; 0.917,-26.36 1.39,-26.36 ; 0.917,-25.64 1.39,-25.64 ; 0.917,-24.36 1.39,-24.36 ; 0.917,-23.64 1.39,-23.64 ; 0.917,-22.36 1.39,-22.36 ; 0.917,-21.64 1.39,-21.64 ; 0.917,-20.36 1.39,-20.36 ; 0.917,-19.64 1.39,-19.64 ; 0.917,-18.36 1.39,-18.36 ; 0.917,-17.64 1.39,-17.64 ; 0.917,-16.36 1.39,-16.36 ; 0.917,-15.64 1.39,-15.64 ; 0.917,-14.36 1.39,-14.36 ; 0.917,-13.64 1.39,-13.64 ; 0.917,-12.36 1.39,-12.36 ; 0.917,-11.64 1.39,-11.64 ; 0.917,-10.36 1.39,-10.36 ; 0.917,-9.64 1.39,-9.64 ; 0.917,-8.36 1.39,-8.36 ; 0.917,-7.64 1.39,-7.64 ; 0.917,-6.36 1.39,-6.36 ; 0.917,-5.64 1.39,-5.64 ; 0.917,-4.36 1.39,-4.36 ; 0.917,-3.64 1.39,-3.64 ; 0.917,-2.36 1.39,-2.36 ; 0.917,-1.64 1.39,-1.64 ; 0.985,-0.36 1.39,-0.36 ; 0.985,0.36 1.39,0.36 ; 1.39,-31 3.11,-31 ; 1.39,-29 3.11,-29 ; 1.39,-27 3.11,-27 ; 1.39,-25 3.11,-25 ; 1.39,-23 3.11,-23 ; 1.39,-21 3.11,-21 ; 1.39,-19 3.11,-19 ; 1.39,-17 3.11,-17 ; 1.39,-15 3.11,-15 ; 1.39,-13 3.11,-13 ; 1.39,-11 3.11,-11 ; 1.39,-9 3.11,-9 ; 1.39,-7 3.11,-7 ; 1.39,-5 3.11,-5 ; 1.39,-3 3.11,-3 ; 1.39,-1 3.11,-1 ; 3.11,-32.36 7.31,-32.36 7.31,-31.64 3.11,-31.64 ; 3.11,-30.36 7.31,-30.36 7.31,-29.64 3.11,-29.64 ; 3.11,-28.36 7.31,-28.36 7.31,-27.64 3.11,-27.64 ; 3.11,-26.36 7.31,-26.36 7.31,-25.64 3.11,-25.64 ; 3.11,-24.36 7.31,-24.36 7.31,-23.64 3.11,-23.64 ; 3.11,-22.36 7.31,-22.36 7.31,-21.64 3.11,-21.64 ; 3.11,-20.36 7.31,-20.36 7.31,-19.64 3.11,-19.64 ; 3.11,-18.36 7.31,-18.36 7.31,-17.64 3.11,-17.64 ; 3.11,-16.36 7.31,-16.36 7.31,-15.64 3.11,-15.64 ; 3.11,-14.36 7.31,-14.36 7.31,-13.64 3.11,-13.64 ; 3.11,-12.36 7.31,-12.36 7.31,-11.64 3.11,-11.64 ; 3.11,-10.36 7.31,-10.36 7.31,-9.64 3.11,-9.64 ; 3.11,-8.36 7.31,-8.36 7.31,-7.64 3.11,-7.64 ; 3.11,-6.36 7.31,-6.36 7.31,-5.64 3.11,-5.64 ; 3.11,-4.36 7.31,-4.36 7.31,-3.64 3.11,-3.64 ; 3.11,-2.36 7.31,-2.36 7.31,-1.64 3.11,-1.64 ; 1.39,-33.11 3.11,-33.11 3.11,1.11 1.39,1.11 1.39,-33.11 ; 3.11,-0.36 7.31,-0.36 7.31,0.36 3.11,0.36 3.11,-0.36
Top Assembly:
  lines w0.254: 1.5,-32.25 -0.25,-32.25 -0.25,-31.75 1.5,-31.75 ; 1.5,-30.25 -0.25,-30.25 -0.25,-29.75 1.5,-29.75 ; 1.5,-28.25 -0.25,-28.25 -0.25,-27.75 1.5,-27.75 ; 1.5,-26.25 -0.25,-26.25 -0.25,-25.75 1.5,-25.75 ; 1.5,-24.25 -0.25,-24.25 -0.25,-23.75 1.5,-23.75 ; 1.5,-22.25 -0.25,-22.25 -0.25,-21.75 1.5,-21.75 ; 1.5,-20.25 -0.25,-20.25 -0.25,-19.75 1.5,-19.75 ; 1.5,-18.25 -0.25,-18.25 -0.25,-17.75 1.5,-17.75 ; 1.5,-16.25 -0.25,-16.25 -0.25,-15.75 1.5,-15.75 ; 1.5,-14.25 -0.25,-14.25 -0.25,-13.75 1.5,-13.75 ; 1.5,-12.25 -0.25,-12.25 -0.25,-11.75 1.5,-11.75 ; 1.5,-10.25 -0.25,-10.25 -0.25,-9.75 1.5,-9.75 ; 1.5,-8.25 -0.25,-8.25 -0.25,-7.75 1.5,-7.75 ; 1.5,-6.25 -0.25,-6.25 -0.25,-5.75 1.5,-5.75 ; 1.5,-4.25 -0.25,-4.25 -0.25,-3.75 1.5,-3.75 ; 1.5,-2.25 -0.25,-2.25 -0.25,-1.75 1.5,-1.75 ; 1.5,-0.25 -0.25,-0.25 -0.25,0.25 1.5,0.25 ; 3,-32.25 7.2,-32.25 7.2,-31.75 3,-31.75 ; 3,-30.25 7.2,-30.25 7.2,-29.75 3,-29.75 ; 3,-28.25 7.2,-28.25 7.2,-27.75 3,-27.75 ; 3,-26.25 7.2,-26.25 7.2,-25.75 3,-25.75 ; 3,-24.25 7.2,-24.25 7.2,-23.75 3,-23.75 ; 3,-22.25 7.2,-22.25 7.2,-21.75 3,-21.75 ; 3,-20.25 7.2,-20.25 7.2,-19.75 3,-19.75 ; 3,-18.25 7.2,-18.25 7.2,-17.75 3,-17.75 ; 3,-16.25 7.2,-16.25 7.2,-15.75 3,-15.75 ; 3,-14.25 7.2,-14.25 7.2,-13.75 3,-13.75 ; 3,-12.25 7.2,-12.25 7.2,-11.75 3,-11.75 ; 3,-10.25 7.2,-10.25 7.2,-9.75 3,-9.75 ; 3,-8.25 7.2,-8.25 7.2,-7.75 3,-7.75 ; 3,-6.25 7.2,-6.25 7.2,-5.75 3,-5.75 ; 3,-4.25 7.2,-4.25 7.2,-3.75 3,-3.75 ; 3,-2.25 7.2,-2.25 7.2,-1.75 3,-1.75 ; 3,-0.25 7.2,-0.25 7.2,0.25 3,0.25 ; 1.5,-33 3,-33 3,1 1.875,1 1.5,0.625 1.5,-33
  text "'.Designator'" at 3.006,-19.642 h0.9
Top Courtyard:
  lines w0.254: -1.5,-33.5 7.7,-33.5 7.7,1.5 -1.5,1.5 -1.5,-33.5
Top Designator:
  text ".Designator" at -4.518,-16.508 h1.52

## PinHeader_1x17_P2.00mm_Vertical [mm]
pads (17):
  rect 1.35x1.35 hole 0.8: 1(0,0)
  round 1.35 hole 0.8: 2(0,-2) 3(0,-4) 4(0,-6) 5(0,-8) 6(0,-10) 7(0,-12) 8(0,-14) 9(0,-16) 10(0,-18) 11(0,-20) 12(0,-22) 13(0,-24) 14(0,-26) 15(0,-28) 16(0,-30) 17(0,-32)
F.SilkS:
  lines w0.254: -1.11,0 -1.11,1.11 0,1.11 ; -1.11,-33.11 1.11,-33.11 1.11,-1 -1.11,-1 -1.11,-33.11
Top Assembly:
  lines w0.254: -1,-33 1,-33 1,1 -0.5,1 -1,0.5 -1,-33
  text "'.Designator'" at 0.84,-20.047 h1
Top Courtyard:
  lines w0.254: -1.5,-33.5 1.5,-33.5 1.5,1.5 -1.5,1.5 -1.5,-33.5
Top Designator:
  text ".Designator" at -7.618,-16.508 h1.52